# Altium footprint library IC_QFP.PcbLib: 10 footprints (part 3 of 5)
Each footprint in its own frame and in the unit in brackets; x right, y up, seen from the top. Pads: shape width x height; smd on the part's side, far side on the other; paste and mask are expansions set on the pad; w line width, h text height; cw(c..) or ccw(c..) is an arc to the next point about the centre after c.
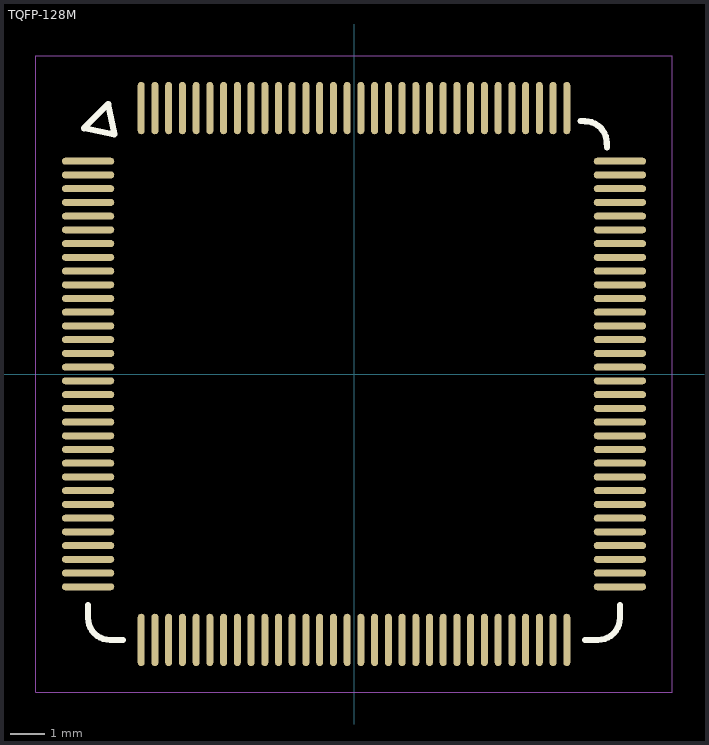
[diagram p2: the footprint, top view; thin cyan lines are the x and y axes]

## TQFP-128M [mil]
pads (128):
  oval 60x8 smd mask+2: 1(-305,244.09) 2(-305,228.35) 3(-305,212.6) 4(-305,196.85) 5(-305,181.1) 6(-305,165.35) 7(-305,149.61) 8(-305,133.86) 9(-305,118.11) 10(-305,102.36) 11(-305,86.61) 12(-305,70.87) 13(-305,55.12) 14(-305,39.37) 15(-305,23.62) 16(-305,7.87) 17(-305,-7.87) 18(-305,-23.62) 19(-305,-39.37) 20(-305,-55.12) 21(-305,-70.87) 22(-305,-86.61) 23(-305,-102.36) 24(-305,-118.11) 25(-305,-133.86) 26(-305,-149.61) 27(-305,-165.35) 28(-305,-181.1) 29(-305,-196.85) 30(-305,-212.6) 31(-305,-228.35) 32(-305,-244.09) 65(305,-244.09) 66(305,-228.35) 67(305,-212.6) 68(305,-196.85) 69(305,-181.1) 70(305,-165.35) 71(305,-149.61) 72(305,-133.86) 73(305,-118.11) 74(305,-102.36) 75(305,-86.61) 76(305,-70.87) 77(305,-55.12) 78(305,-39.37) 79(305,-23.62) 80(305,-7.87) 81(305,7.87) 82(305,23.62) 83(305,39.37) 84(305,55.12) 85(305,70.87) 86(305,86.61) 87(305,102.36) 88(305,118.11) 89(305,133.86) 90(305,149.61) 91(305,165.35) 92(305,181.1) 93(305,196.85) 94(305,212.6) 95(305,228.35) 96(305,244.09)
  oval 8x60 smd mask+2: 33(-244.09,-305) 34(-228.35,-305) 35(-212.6,-305) 36(-196.85,-305) 37(-181.1,-305) 38(-165.35,-305) 39(-149.61,-305) 40(-133.86,-305) 41(-118.11,-305) 42(-102.36,-305) 43(-86.61,-305) 44(-70.87,-305) 45(-55.12,-305) 46(-39.37,-305) 47(-23.62,-305) 48(-7.87,-305) 49(7.87,-305) 50(23.62,-305) 51(39.37,-305) 52(55.12,-305) 53(70.87,-305) 54(86.61,-305) 55(102.36,-305) 56(118.11,-305) 57(133.86,-305) 58(149.61,-305) 59(165.35,-305) 60(181.1,-305) 61(196.85,-305) 62(212.6,-305) 63(228.35,-305) 64(244.09,-305) 97(244.09,305) 98(228.35,305) 99(212.6,305) 100(196.85,305) 101(181.1,305) 102(165.35,305) 103(149.61,305) 104(133.86,305) 105(118.11,305) 106(102.36,305) 107(86.61,305) 108(70.87,305) 109(55.12,305) 110(39.37,305) 111(23.62,305) 112(7.87,305) 113(-7.87,305) 114(-23.62,305) 115(-39.37,305) 116(-55.12,305) 117(-70.87,305) 118(-86.61,305) 119(-102.36,305) 120(-118.11,305) 121(-133.86,305) 122(-149.61,305) 123(-165.35,305) 124(-181.1,305) 125(-196.85,305) 126(-212.6,305) 127(-228.35,305) 128(-244.09,305)
Top Overlay:
  lines w7: -305,-265 -305,-280 ccw(c-280,-280) -280,-305 -265,-305 ; 260,290 264.96,289.96 cw(c264.96,264.96) 289.96,264.96 290,260 ; 265,-305 280,-305 ccw(c280,-280) 305,-280 305,-265 ; -309.8,281.96 -275,275 -281.96,309.8 -309.8,281.96
Mechanical 15:
  lines w1: -365,-365 365,-365 365,365 -365,365 -365,-365
3D body: height 45.5, standoff 45, extent -224,198 -198,224
3D body: height 30, standoff 23, extent 240.09,275 248.09,285
3D body: height 7, standoff 0, extent 240.09,295 248.09,315
3D body: height 30, standoff 0, extent 240.09,285 248.09,295
3D body: height 30, standoff 23, extent 224.35,275 232.35,285
3D body: height 7, standoff 0, extent 224.35,295 232.35,315
3D body: height 30, standoff 0, extent 224.35,285 232.35,295
3D body: height 30, standoff 23, extent 208.6,275 216.6,285
3D body: height 7, standoff 0, extent 208.6,295 216.6,315
3D body: height 30, standoff 0, extent 208.6,285 216.6,295
3D body: height 30, standoff 23, extent 192.85,275 200.85,285
3D body: height 7, standoff 0, extent 192.85,295 200.85,315
3D body: height 30, standoff 0, extent 192.85,285 200.85,295
3D body: height 30, standoff 23, extent 177.1,275 185.1,285
3D body: height 7, standoff 0, extent 177.1,295 185.1,315
3D body: height 30, standoff 0, extent 177.1,285 185.1,295
3D body: height 30, standoff 23, extent 161.35,275 169.35,285
3D body: height 7, standoff 0, extent 161.35,295 169.35,315
3D body: height 30, standoff 0, extent 161.35,285 169.35,295
3D body: height 30, standoff 0, extent 66.87,285 74.87,295
3D body: height 7, standoff 0, extent 66.87,295 74.87,315
3D body: height 30, standoff 23, extent 66.87,275 74.87,285
3D body: height 30, standoff 0, extent 82.61,285 90.61,295
3D body: height 7, standoff 0, extent 82.61,295 90.61,315
3D body: height 30, standoff 23, extent 82.61,275 90.61,285
3D body: height 30, standoff 0, extent 98.36,285 106.36,295
3D body: height 7, standoff 0, extent 98.36,295 106.36,315
3D body: height 30, standoff 23, extent 98.36,275 106.36,285
3D body: height 30, standoff 0, extent 114.11,285 122.11,295
3D body: height 7, standoff 0, extent 114.11,295 122.11,315
3D body: height 30, standoff 23, extent 114.11,275 122.11,285
3D body: height 30, standoff 0, extent 129.86,285 137.86,295
3D body: height 7, standoff 0, extent 129.86,295 137.86,315
3D body: height 30, standoff 23, extent 129.86,275 137.86,285
3D body: height 30, standoff 0, extent 145.61,285 153.61,295
3D body: height 7, standoff 0, extent 145.61,295 153.61,315
3D body: height 30, standoff 23, extent 145.61,275 153.61,285
3D body: height 30, standoff 0, extent -27.62,285 -19.62,295
3D body: height 7, standoff 0, extent -27.62,295 -19.62,315
3D body: height 30, standoff 23, extent -27.62,275 -19.62,285
3D body: height 30, standoff 0, extent -11.87,285 -3.87,295
3D body: height 7, standoff 0, extent -11.87,295 -3.87,315
3D body: height 30, standoff 23, extent -11.87,275 -3.87,285
3D body: height 30, standoff 0, extent 3.87,285 11.87,295
3D body: height 7, standoff 0, extent 3.87,295 11.87,315
3D body: height 30, standoff 23, extent 3.87,275 11.87,285
3D body: height 30, standoff 0, extent 19.62,285 27.62,295
3D body: height 7, standoff 0, extent 19.62,295 27.62,315
3D body: height 30, standoff 23, extent 19.62,275 27.62,285
3D body: height 30, standoff 0, extent 35.37,285 43.37,295
3D body: height 7, standoff 0, extent 35.37,295 43.37,315
3D body: height 30, standoff 23, extent 35.37,275 43.37,285
3D body: height 30, standoff 0, extent 51.12,285 59.12,295
3D body: height 7, standoff 0, extent 51.12,295 59.12,315
3D body: height 30, standoff 23, extent 51.12,275 59.12,285
3D body: height 30, standoff 0, extent -122.11,285 -114.11,295
3D body: height 7, standoff 0, extent -122.11,295 -114.11,315
3D body: height 30, standoff 23, extent -122.11,275 -114.11,285
3D body: height 30, standoff 0, extent -106.36,285 -98.36,295
3D body: height 7, standoff 0, extent -106.36,295 -98.36,315
3D body: height 30, standoff 23, extent -106.36,275 -98.36,285
3D body: height 30, standoff 0, extent -90.61,285 -82.61,295
3D body: height 7, standoff 0, extent -90.61,295 -82.61,315
3D body: height 30, standoff 23, extent -90.61,275 -82.61,285
3D body: height 30, standoff 0, extent -74.87,285 -66.87,295
3D body: height 7, standoff 0, extent -74.87,295 -66.87,315
3D body: height 30, standoff 23, extent -74.87,275 -66.87,285
3D body: height 30, standoff 0, extent -59.12,285 -51.12,295
3D body: height 7, standoff 0, extent -59.12,295 -51.12,315
3D body: height 30, standoff 23, extent -59.12,275 -51.12,285
3D body: height 30, standoff 0, extent -43.37,285 -35.37,295
3D body: height 7, standoff 0, extent -43.37,295 -35.37,315
3D body: height 30, standoff 23, extent -43.37,275 -35.37,285
3D body: height 30, standoff 0, extent -216.6,285 -208.6,295
3D body: height 7, standoff 0, extent -216.6,295 -208.6,315
3D body: height 30, standoff 23, extent -216.6,275 -208.6,285
3D body: height 30, standoff 0, extent -200.85,285 -192.85,295
3D body: height 7, standoff 0, extent -200.85,295 -192.85,315
3D body: height 30, standoff 23, extent -200.85,275 -192.85,285
3D body: height 30, standoff 0, extent -185.1,285 -177.1,295
3D body: height 7, standoff 0, extent -185.1,295 -177.1,315
3D body: height 30, standoff 23, extent -185.1,275 -177.1,285
3D body: height 30, standoff 0, extent -169.35,285 -161.35,295
3D body: height 7, standoff 0, extent -169.35,295 -161.35,315
3D body: height 30, standoff 23, extent -169.35,275 -161.35,285
3D body: height 30, standoff 0, extent -153.61,285 -145.61,295
3D body: height 7, standoff 0, extent -153.61,295 -145.61,315
3D body: height 30, standoff 23, extent -153.61,275 -145.61,285
3D body: height 30, standoff 0, extent -137.86,285 -129.86,295
3D body: height 7, standoff 0, extent -137.86,295 -129.86,315
3D body: height 30, standoff 23, extent -137.86,275 -129.86,285
3D body: height 30, standoff 0, extent -248.09,285 -240.09,295
3D body: height 7, standoff 0, extent -248.09,295 -240.09,315
3D body: height 30, standoff 23, extent -248.09,275 -240.09,285
3D body: height 30, standoff 0, extent -232.35,285 -224.35,295
3D body: height 7, standoff 0, extent -232.35,295 -224.35,315
3D body: height 30, standoff 23, extent -232.35,275 -224.35,285
3D body: height 30, standoff 23, extent 275,-248.09 285,-240.09
3D body: height 7, standoff 0, extent 295,-248.09 315,-240.09
3D body: height 30, standoff 0, extent 285,-248.09 295,-240.09
3D body: height 30, standoff 23, extent 275,-232.35 285,-224.35
3D body: height 7, standoff 0, extent 295,-232.35 315,-224.35
3D body: height 30, standoff 0, extent 285,-232.35 295,-224.35
3D body: height 30, standoff 23, extent 275,-216.6 285,-208.6
3D body: height 7, standoff 0, extent 295,-216.6 315,-208.6
3D body: height 30, standoff 0, extent 285,-216.6 295,-208.6
3D body: height 30, standoff 23, extent 275,-200.85 285,-192.85
3D body: height 7, standoff 0, extent 295,-200.85 315,-192.85
3D body: height 30, standoff 0, extent 285,-200.85 295,-192.85
3D body: height 30, standoff 23, extent 275,-185.1 285,-177.1
3D body: height 7, standoff 0, extent 295,-185.1 315,-177.1
3D body: height 30, standoff 0, extent 285,-185.1 295,-177.1
3D body: height 30, standoff 23, extent 275,-169.35 285,-161.35
3D body: height 7, standoff 0, extent 295,-169.35 315,-161.35
3D body: height 30, standoff 0, extent 285,-169.35 295,-161.35
3D body: height 30, standoff 0, extent 285,-74.87 295,-66.87
3D body: height 7, standoff 0, extent 295,-74.87 315,-66.87
3D body: height 30, standoff 23, extent 275,-74.87 285,-66.87
3D body: height 30, standoff 0, extent 285,-90.61 295,-82.61
3D body: height 7, standoff 0, extent 295,-90.61 315,-82.61
3D body: height 30, standoff 23, extent 275,-90.61 285,-82.61
3D body: height 30, standoff 0, extent 285,-106.36 295,-98.36
3D body: height 7, standoff 0, extent 295,-106.36 315,-98.36
3D body: height 30, standoff 23, extent 275,-106.36 285,-98.36
3D body: height 30, standoff 0, extent 285,-122.11 295,-114.11
3D body: height 7, standoff 0, extent 295,-122.11 315,-114.11
3D body: height 30, standoff 23, extent 275,-122.11 285,-114.11
3D body: height 30, standoff 0, extent 285,-137.86 295,-129.86
3D body: height 7, standoff 0, extent 295,-137.86 315,-129.86
3D body: height 30, standoff 23, extent 275,-137.86 285,-129.86
3D body: height 30, standoff 0, extent 285,-153.61 295,-145.61
3D body: height 7, standoff 0, extent 295,-153.61 315,-145.61
3D body: height 30, standoff 23, extent 275,-153.61 285,-145.61
3D body: height 30, standoff 0, extent 285,19.62 295,27.62
3D body: height 7, standoff 0, extent 295,19.62 315,27.62
3D body: height 30, standoff 23, extent 275,19.62 285,27.62
3D body: height 30, standoff 0, extent 285,3.87 295,11.87
3D body: height 7, standoff 0, extent 295,3.87 315,11.87
3D body: height 30, standoff 23, extent 275,3.87 285,11.87
3D body: height 30, standoff 0, extent 285,-11.87 295,-3.87
3D body: height 7, standoff 0, extent 295,-11.87 315,-3.87
3D body: height 30, standoff 23, extent 275,-11.87 285,-3.87
3D body: height 30, standoff 0, extent 285,-27.62 295,-19.62
3D body: height 7, standoff 0, extent 295,-27.62 315,-19.62
3D body: height 30, standoff 23, extent 275,-27.62 285,-19.62
3D body: height 30, standoff 0, extent 285,-43.37 295,-35.37
3D body: height 7, standoff 0, extent 295,-43.37 315,-35.37
3D body: height 30, standoff 23, extent 275,-43.37 285,-35.37
3D body: height 30, standoff 0, extent 285,-59.12 295,-51.12
3D body: height 7, standoff 0, extent 295,-59.12 315,-51.12
3D body: height 30, standoff 23, extent 275,-59.12 285,-51.12
3D body: height 30, standoff 0, extent 285,114.11 295,122.11
3D body: height 7, standoff 0, extent 295,114.11 315,122.11
3D body: height 30, standoff 23, extent 275,114.11 285,122.11
3D body: height 30, standoff 0, extent 285,98.36 295,106.36
3D body: height 7, standoff 0, extent 295,98.36 315,106.36
3D body: height 30, standoff 23, extent 275,98.36 285,106.36
3D body: height 30, standoff 0, extent 285,82.61 295,90.61
3D body: height 7, standoff 0, extent 295,82.61 315,90.61
3D body: height 30, standoff 23, extent 275,82.61 285,90.61
3D body: height 30, standoff 0, extent 285,66.87 295,74.87
3D body: height 7, standoff 0, extent 295,66.87 315,74.87
3D body: height 30, standoff 23, extent 275,66.87 285,74.87
3D body: height 30, standoff 0, extent 285,51.12 295,59.12
3D body: height 7, standoff 0, extent 295,51.12 315,59.12
3D body: height 30, standoff 23, extent 275,51.12 285,59.12
3D body: height 30, standoff 0, extent 285,35.37 295,43.37
3D body: height 7, standoff 0, extent 295,35.37 315,43.37
3D body: height 30, standoff 23, extent 275,35.37 285,43.37
3D body: height 30, standoff 0, extent 285,208.6 295,216.6
3D body: height 7, standoff 0, extent 295,208.6 315,216.6
3D body: height 30, standoff 23, extent 275,208.6 285,216.6
3D body: height 30, standoff 0, extent 285,192.85 295,200.85
3D body: height 7, standoff 0, extent 295,192.85 315,200.85
3D body: height 30, standoff 23, extent 275,192.85 285,200.85
3D body: height 30, standoff 0, extent 285,177.1 295,185.1
3D body: height 7, standoff 0, extent 295,177.1 315,185.1
3D body: height 30, standoff 23, extent 275,177.1 285,185.1
3D body: height 30, standoff 0, extent 285,161.35 295,169.35
3D body: height 7, standoff 0, extent 295,161.35 315,169.35
3D body: height 30, standoff 23, extent 275,161.35 285,169.35
3D body: height 30, standoff 0, extent 285,145.61 295,153.61
3D body: height 7, standoff 0, extent 295,145.61 315,153.61
3D body: height 30, standoff 23, extent 275,145.61 285,153.61
3D body: height 30, standoff 0, extent 285,129.86 295,137.86
3D body: height 7, standoff 0, extent 295,129.86 315,137.86
3D body: height 30, standoff 23, extent 275,129.86 285,137.86
3D body: height 30, standoff 0, extent 285,240.09 295,248.09
3D body: height 7, standoff 0, extent 295,240.09 315,248.09
3D body: height 30, standoff 23, extent 275,240.09 285,248.09
3D body: height 30, standoff 0, extent 285,224.35 295,232.35
3D body: height 7, standoff 0, extent 295,224.35 315,232.35
3D body: height 30, standoff 23, extent 275,224.35 285,232.35
3D body: height 30, standoff 23, extent -248.09,-285 -240.09,-275
3D body: height 7, standoff 0, extent -248.09,-315 -240.09,-295
3D body: height 30, standoff 0, extent -248.09,-295 -240.09,-285
3D body: height 30, standoff 23, extent -232.35,-285 -224.35,-275
3D body: height 7, standoff 0, extent -232.35,-315 -224.35,-295
3D body: height 30, standoff 0, extent -232.35,-295 -224.35,-285
3D body: height 30, standoff 23, extent -216.6,-285 -208.6,-275
3D body: height 7, standoff 0, extent -216.6,-315 -208.6,-295
3D body: height 30, standoff 0, extent -216.6,-295 -208.6,-285
3D body: height 30, standoff 23, extent -200.85,-285 -192.85,-275
3D body: height 7, standoff 0, extent -200.85,-315 -192.85,-295
3D body: height 30, standoff 0, extent -200.85,-295 -192.85,-285
3D body: height 30, standoff 23, extent -185.1,-285 -177.1,-275
3D body: height 7, standoff 0, extent -185.1,-315 -177.1,-295
3D body: height 30, standoff 0, extent -185.1,-295 -177.1,-285
3D body: height 30, standoff 23, extent -169.35,-285 -161.35,-275
3D body: height 7, standoff 0, extent -169.35,-315 -161.35,-295
3D body: height 30, standoff 0, extent -169.35,-295 -161.35,-285
3D body: height 30, standoff 0, extent -74.87,-295 -66.87,-285
3D body: height 7, standoff 0, extent -74.87,-315 -66.87,-295
3D body: height 30, standoff 23, extent -74.87,-285 -66.87,-275
3D body: height 30, standoff 0, extent -90.61,-295 -82.61,-285
3D body: height 7, standoff 0, extent -90.61,-315 -82.61,-295
3D body: height 30, standoff 23, extent -90.61,-285 -82.61,-275
3D body: height 30, standoff 0, extent -106.36,-295 -98.36,-285
3D body: height 7, standoff 0, extent -106.36,-315 -98.36,-295
3D body: height 30, standoff 23, extent -106.36,-285 -98.36,-275
3D body: height 30, standoff 0, extent -122.11,-295 -114.11,-285
3D body: height 7, standoff 0, extent -122.11,-315 -114.11,-295
3D body: height 30, standoff 23, extent -122.11,-285 -114.11,-275
3D body: height 30, standoff 0, extent -137.86,-295 -129.86,-285
3D body: height 7, standoff 0, extent -137.86,-315 -129.86,-295
3D body: height 30, standoff 23, extent -137.86,-285 -129.86,-275
3D body: height 30, standoff 0, extent -153.61,-295 -145.61,-285
3D body: height 7, standoff 0, extent -153.61,-315 -145.61,-295
3D body: height 30, standoff 23, extent -153.61,-285 -145.61,-275
3D body: height 30, standoff 0, extent 19.62,-295 27.62,-285
3D body: height 7, standoff 0, extent 19.62,-315 27.62,-295
3D body: height 30, standoff 23, extent 19.62,-285 27.62,-275
3D body: height 30, standoff 0, extent 3.87,-295 11.87,-285
3D body: height 7, standoff 0, extent 3.87,-315 11.87,-295
3D body: height 30, standoff 23, extent 3.87,-285 11.87,-275
3D body: height 30, standoff 0, extent -11.87,-295 -3.87,-285
3D body: height 7, standoff 0, extent -11.87,-315 -3.87,-295
3D body: height 30, standoff 23, extent -11.87,-285 -3.87,-275
3D body: height 30, standoff 0, extent -27.62,-295 -19.62,-285
3D body: height 7, standoff 0, extent -27.62,-315 -19.62,-295
3D body: height 30, standoff 23, extent -27.62,-285 -19.62,-275
3D body: height 30, standoff 0, extent -43.37,-295 -35.37,-285
3D body: height 7, standoff 0, extent -43.37,-315 -35.37,-295
3D body: height 30, standoff 23, extent -43.37,-285 -35.37,-275
3D body: height 30, standoff 0, extent -59.12,-295 -51.12,-285
3D body: height 7, standoff 0, extent -59.12,-315 -51.12,-295
3D body: height 30, standoff 23, extent -59.12,-285 -51.12,-275
3D body: height 30, standoff 0, extent 114.11,-295 122.11,-285
3D body: height 7, standoff 0, extent 114.11,-315 122.11,-295
3D body: height 30, standoff 23, extent 114.11,-285 122.11,-275
3D body: height 30, standoff 0, extent 98.36,-295 106.36,-285
3D body: height 7, standoff 0, extent 98.36,-315 106.36,-295
3D body: height 30, standoff 23, extent 98.36,-285 106.36,-275
3D body: height 30, standoff 0, extent 82.61,-295 90.61,-285
3D body: height 7, standoff 0, extent 82.61,-315 90.61,-295
3D body: height 30, standoff 23, extent 82.61,-285 90.61,-275
3D body: height 30, standoff 0, extent 66.87,-295 74.87,-285
3D body: height 7, standoff 0, extent 66.87,-315 74.87,-295
3D body: height 30, standoff 23, extent 66.87,-285 74.87,-275
3D body: height 30, standoff 0, extent 51.12,-295 59.12,-285
3D body: height 7, standoff 0, extent 51.12,-315 59.12,-295
3D body: height 30, standoff 23, extent 51.12,-285 59.12,-275
3D body: height 30, standoff 0, extent 35.37,-295 43.37,-285
3D body: height 7, standoff 0, extent 35.37,-315 43.37,-295
3D body: height 30, standoff 23, extent 35.37,-285 43.37,-275
3D body: height 30, standoff 0, extent 208.6,-295 216.6,-285
3D body: height 7, standoff 0, extent 208.6,-315 216.6,-295
3D body: height 30, standoff 23, extent 208.6,-285 216.6,-275
3D body: height 30, standoff 0, extent 192.85,-295 200.85,-285
3D body: height 7, standoff 0, extent 192.85,-315 200.85,-295
3D body: height 30, standoff 23, extent 192.85,-285 200.85,-275
3D body: height 30, standoff 0, extent 177.1,-295 185.1,-285
3D body: height 7, standoff 0, extent 177.1,-315 185.1,-295
3D body: height 30, standoff 23, extent 177.1,-285 185.1,-275
3D body: height 30, standoff 0, extent 161.35,-295 169.35,-285
3D body: height 7, standoff 0, extent 161.35,-315 169.35,-295
3D body: height 30, standoff 23, extent 161.35,-285 169.35,-275
3D body: height 30, standoff 0, extent 145.61,-295 153.61,-285
3D body: height 7, standoff 0, extent 145.61,-315 153.61,-295
3D body: height 30, standoff 23, extent 145.61,-285 153.61,-275
3D body: height 30, standoff 0, extent 129.86,-295 137.86,-285
3D body: height 7, standoff 0, extent 129.86,-315 137.86,-295
3D body: height 30, standoff 23, extent 129.86,-285 137.86,-275
3D body: height 30, standoff 0, extent 240.09,-295 248.09,-285
3D body: height 7, standoff 0, extent 240.09,-315 248.09,-295
3D body: height 30, standoff 23, extent 240.09,-285 248.09,-275
3D body: height 30, standoff 0, extent 224.35,-295 232.35,-285
3D body: height 7, standoff 0, extent 224.35,-315 232.35,-295
3D body: height 30, standoff 23, extent 224.35,-285 232.35,-275
3D body: height 30, standoff 23, extent -285,-232.35 -275,-224.35
3D body: height 7, standoff 0, extent -315,-232.35 -295,-224.35
3D body: height 30, standoff 0, extent -295,-232.35 -285,-224.35
3D body: height 30, standoff 23, extent -285,-248.09 -275,-240.09
3D body: height 7, standoff 0, extent -315,-248.09 -295,-240.09
3D body: height 30, standoff 0, extent -295,-248.09 -285,-240.09
3D body: height 30, standoff 23, extent -285,-137.86 -275,-129.86
3D body: height 7, standoff 0, extent -315,-137.86 -295,-129.86
3D body: height 30, standoff 0, extent -295,-137.86 -285,-129.86
3D body: height 30, standoff 23, extent -285,-153.61 -275,-145.61
3D body: height 7, standoff 0, extent -315,-153.61 -295,-145.61
3D body: height 30, standoff 0, extent -295,-153.61 -285,-145.61
3D body: height 30, standoff 23, extent -285,-169.35 -275,-161.35
3D body: height 7, standoff 0, extent -315,-169.35 -295,-161.35
3D body: height 30, standoff 0, extent -295,-169.35 -285,-161.35
3D body: height 30, standoff 23, extent -285,-185.1 -275,-177.1
3D body: height 7, standoff 0, extent -315,-185.1 -295,-177.1
3D body: height 30, standoff 0, extent -295,-185.1 -285,-177.1
3D body: height 30, standoff 23, extent -285,-200.85 -275,-192.85
3D body: height 7, standoff 0, extent -315,-200.85 -295,-192.85
3D body: height 30, standoff 0, extent -295,-200.85 -285,-192.85
3D body: height 30, standoff 23, extent -285,-216.6 -275,-208.6
3D body: height 7, standoff 0, extent -315,-216.6 -295,-208.6
3D body: height 30, standoff 0, extent -295,-216.6 -285,-208.6
3D body: height 30, standoff 23, extent -285,-43.37 -275,-35.37
3D body: height 7, standoff 0, extent -315,-43.37 -295,-35.37
3D body: height 30, standoff 0, extent -295,-43.37 -285,-35.37
3D body: height 30, standoff 23, extent -285,-59.12 -275,-51.12
3D body: height 7, standoff 0, extent -315,-59.12 -295,-51.12
3D body: height 30, standoff 0, extent -295,-59.12 -285,-51.12
3D body: height 30, standoff 23, extent -285,-74.87 -275,-66.87
3D body: height 7, standoff 0, extent -315,-74.87 -295,-66.87
3D body: height 30, standoff 0, extent -295,-74.87 -285,-66.87
3D body: height 30, standoff 23, extent -285,-90.61 -275,-82.61
3D body: height 7, standoff 0, extent -315,-90.61 -295,-82.61
3D body: height 30, standoff 0, extent -295,-90.61 -285,-82.61
3D body: height 30, standoff 23, extent -285,-106.36 -275,-98.36
3D body: height 7, standoff 0, extent -315,-106.36 -295,-98.36
3D body: height 30, standoff 0, extent -295,-106.36 -285,-98.36
3D body: height 30, standoff 23, extent -285,-122.11 -275,-114.11
3D body: height 7, standoff 0, extent -315,-122.11 -295,-114.11
3D body: height 30, standoff 0, extent -295,-122.11 -285,-114.11
3D body: height 30, standoff 23, extent -285,51.12 -275,59.12
3D body: height 7, standoff 0, extent -315,51.12 -295,59.12
3D body: height 30, standoff 0, extent -295,51.12 -285,59.12
3D body: height 30, standoff 23, extent -285,35.37 -275,43.37
3D body: height 7, standoff 0, extent -315,35.37 -295,43.37
3D body: height 30, standoff 0, extent -295,35.37 -285,43.37
3D body: height 30, standoff 23, extent -285,19.62 -275,27.62
3D body: height 7, standoff 0, extent -315,19.62 -295,27.62
3D body: height 30, standoff 0, extent -295,19.62 -285,27.62
3D body: height 30, standoff 23, extent -285,3.87 -275,11.87
3D body: height 7, standoff 0, extent -315,3.87 -295,11.87
3D body: height 30, standoff 0, extent -295,3.87 -285,11.87
3D body: height 30, standoff 23, extent -285,-11.87 -275,-3.87
3D body: height 7, standoff 0, extent -315,-11.87 -295,-3.87
3D body: height 30, standoff 0, extent -295,-11.87 -285,-3.87
3D body: height 30, standoff 23, extent -285,-27.62 -275,-19.62
3D body: height 7, standoff 0, extent -315,-27.62 -295,-19.62
3D body: height 30, standoff 0, extent -295,-27.62 -285,-19.62
3D body: height 30, standoff 23, extent -285,145.61 -275,153.61
3D body: height 7, standoff 0, extent -315,145.61 -295,153.61
3D body: height 30, standoff 0, extent -295,145.61 -285,153.61
3D body: height 30, standoff 23, extent -285,129.86 -275,137.86
3D body: height 7, standoff 0, extent -315,129.86 -295,137.86
3D body: height 30, standoff 0, extent -295,129.86 -285,137.86
3D body: height 30, standoff 23, extent -285,114.11 -275,122.11
3D body: height 7, standoff 0, extent -315,114.11 -295,122.11
3D body: height 30, standoff 0, extent -295,114.11 -285,122.11
3D body: height 30, standoff 23, extent -285,98.36 -275,106.36
3D body: height 7, standoff 0, extent -315,98.36 -295,106.36
3D body: height 30, standoff 0, extent -295,98.36 -285,106.36
3D body: height 30, standoff 23, extent -285,82.61 -275,90.61
3D body: height 7, standoff 0, extent -315,82.61 -295,90.61
3D body: height 30, standoff 0, extent -295,82.61 -285,90.61
3D body: height 30, standoff 23, extent -285,66.87 -275,74.87
3D body: height 7, standoff 0, extent -315,66.87 -295,74.87
3D body: height 30, standoff 0, extent -295,66.87 -285,74.87
3D body: height 30, standoff 0, extent -295,161.35 -285,169.35
3D body: height 7, standoff 0, extent -315,161.35 -295,169.35
3D body: height 30, standoff 23, extent -285,161.35 -275,169.35
3D body: height 30, standoff 0, extent -295,177.1 -285,185.1
3D body: height 7, standoff 0, extent -315,177.1 -295,185.1
3D body: height 30, standoff 23, extent -285,177.1 -275,185.1
3D body: height 30, standoff 0, extent -295,192.85 -285,200.85
3D body: height 7, standoff 0, extent -315,192.85 -295,200.85
3D body: height 30, standoff 23, extent -285,192.85 -275,200.85
3D body: height 30, standoff 0, extent -295,208.6 -285,216.6
3D body: height 7, standoff 0, extent -315,208.6 -295,216.6
3D body: height 30, standoff 23, extent -285,208.6 -275,216.6
3D body: height 30, standoff 0, extent -295,224.35 -285,232.35
3D body: height 7, standoff 0, extent -315,224.35 -295,232.35
3D body: height 30, standoff 23, extent -285,224.35 -275,232.35
3D body: height 30, standoff 0, extent -295,240.09 -285,248.09
3D body: height 7, standoff 0, extent -315,240.09 -295,248.09
3D body: height 30, standoff 23, extent -285,240.09 -275,248.09
3D body: height 45, standoff 0, extent -276,-276 276,276